# Altium integrated library ON Semi Logic Translator.IntLib: 79 symbols (part 1 of 2)
Pins are listed as number, name and electrical type; pins without a type are passive.

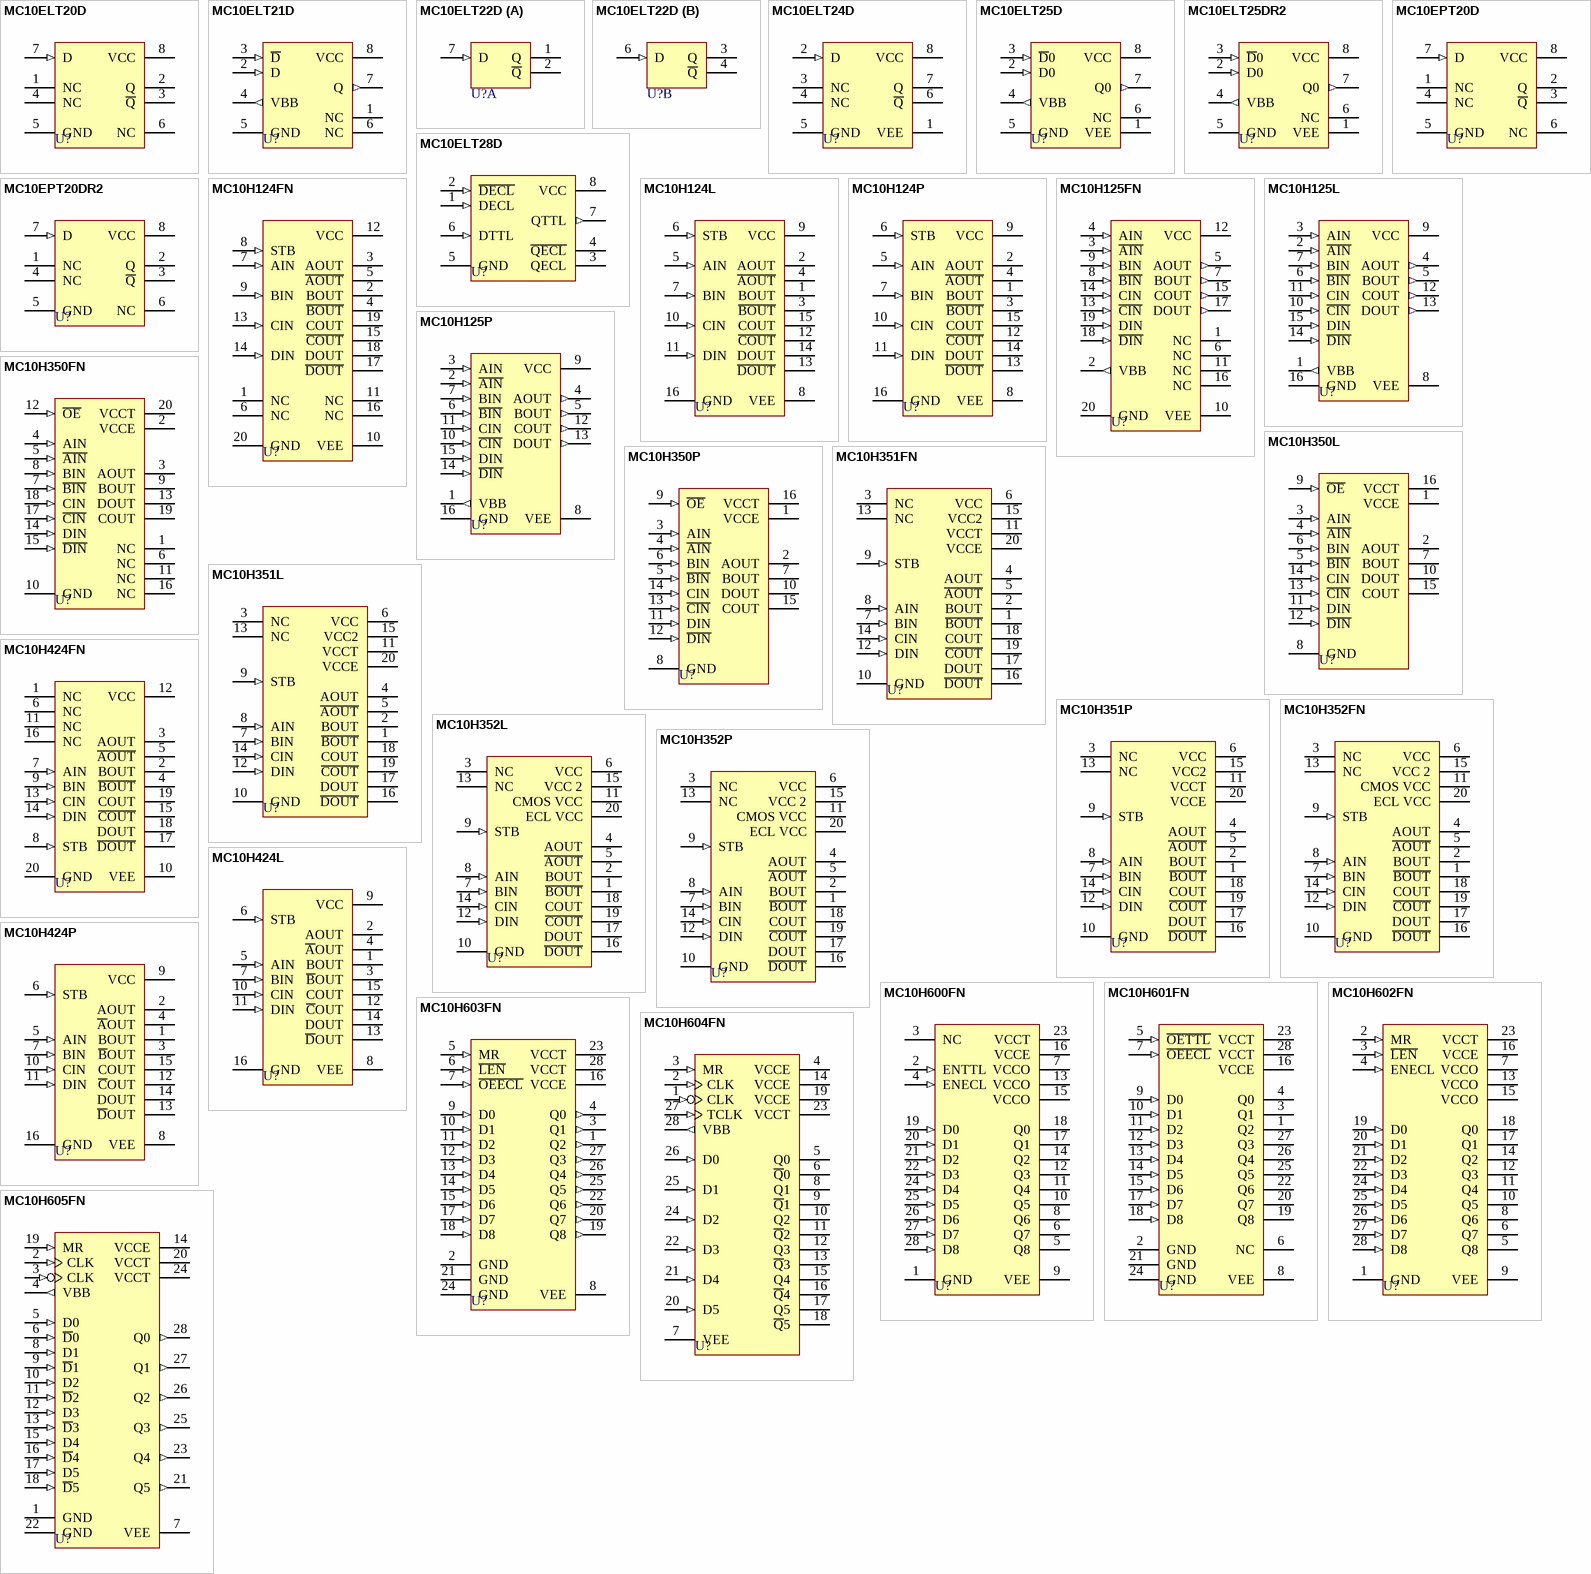
[diagram p0: symbols MC10ELT20D to MC10H605FN]

## MC10ELT20D
designator U?
TTL to Differential PECL Translator; Published: 15-Apr-2002; LatestRevisionDate: 13-Apr-2006; LatestRevisionNote: IPC-7351 Footprint Added.; DatasheetVersion: 1996; PackageVersion: 1998; PackageReference: 751-05; Publisher: Altium Limited; PackageDescription: 8-Pin Small Outline Integrated Circuit 1.27 mm Pitch; Code_JEDEC: MS-012-AA; Code_IPC: SOIC127P600-8; ComponentLink1Description: Manufacturer Link; ComponentLink1URL: http://www.onsemi.com/; ComponentLink2Description: Datasheet; ComponentLink2URL: http://www.onsemi.com/pub/Collateral/MC10ELT20-D.PDF
footprint 751-05_N (SOIC, 8-Leads, Body 4.9x3.9mm, Pitch 1.27mm, IPC Medium Density)
footprint 751-05_L (SOIC, 8-Leads, Body 4.9x3.9mm, Pitch 1.27mm, IPC High Density)
footprint 751-05_M (SOIC, 8-Leads, Body 4.9x3.9mm, Pitch 1.27mm, IPC Low Density)
pins: 1 NC, 2 Q (oe), 3 ~{Q} (oe), 4 NC, 5 GND (power), 6 NC, 7 D (in), 8 VCC (power)

## MC10ELT21D
designator U?
Differential PECL to TTL Translator; Published: 15-Apr-2002; LatestRevisionDate: 13-Apr-2006; LatestRevisionNote: IPC-7351 Footprint Added.; DatasheetVersion: 1996; PackageVersion: 1998; PackageReference: 751-05; Publisher: Altium Limited; PackageDescription: 8-Pin Small Outline Integrated Circuit 1.27 mm Pitch; Code_JEDEC: MS-012-AA; Code_IPC: SOIC127P600-8; ComponentLink1Description: Manufacturer Link; ComponentLink1URL: http://www.onsemi.com/; ComponentLink2Description: Datasheet; ComponentLink2URL: http://www.onsemi.com/pub/Collateral/MC10ELT21-D.PDF
footprint 751-05_N (SOIC, 8-Leads, Body 4.9x3.9mm, Pitch 1.27mm, IPC Medium Density)
footprint 751-05_L (SOIC, 8-Leads, Body 4.9x3.9mm, Pitch 1.27mm, IPC High Density)
footprint 751-05_M (SOIC, 8-Leads, Body 4.9x3.9mm, Pitch 1.27mm, IPC Low Density)
pins: 1 NC, 2 D (in), 3 ~{D} (in), 4 VBB (out), 5 GND (power), 6 NC, 7 Q (out), 8 VCC (power)

## MC10ELT22D
designator U?
Dual TTL to Differential PECL Translator; Published: 15-Apr-2002; LatestRevisionDate: 13-Apr-2006; LatestRevisionNote: IPC-7351 Footprint Added.; DatasheetVersion: 1996; PackageVersion: 1998; PackageReference: 751-05; Publisher: Altium Limited; PackageDescription: 8-Pin Small Outline Integrated Circuit 1.27 mm Pitch; Code_JEDEC: MS-012-AA; Code_IPC: SOIC127P600-8; ComponentLink1Description: Manufacturer Link; ComponentLink1URL: http://www.onsemi.com/; ComponentLink2Description: Datasheet; ComponentLink2URL: http://www.onsemi.com/pub/Collateral/MC10ELT22-D.PDF
footprint 751-05_N (SOIC, 8-Leads, Body 4.9x3.9mm, Pitch 1.27mm, IPC Medium Density)
footprint 751-05_L (SOIC, 8-Leads, Body 4.9x3.9mm, Pitch 1.27mm, IPC High Density)
footprint 751-05_M (SOIC, 8-Leads, Body 4.9x3.9mm, Pitch 1.27mm, IPC Low Density)
pins on every part: 5 GND (power) hidden to GND, 8 VCC (power) hidden to VCC
part A pins: 1 Q (oe), 2 ~{Q} (oe), 7 D (in)
part B pins: 3 Q (oe), 4 ~{Q} (oe), 6 D (in)

## MC10ELT24D
designator U?
TTL to Differential ECL Translator; Published: 15-Apr-2002; LatestRevisionDate: 13-Apr-2006; LatestRevisionNote: IPC-7351 Footprint Added.; DatasheetVersion: 1996; PackageVersion: 1998; PackageReference: 751-05; Publisher: Altium Limited; PackageDescription: 8-Pin Small Outline Integrated Circuit 1.27 mm Pitch; Code_JEDEC: MS-012-AA; Code_IPC: SOIC127P600-8; ComponentLink1Description: Manufacturer Link; ComponentLink1URL: http://www.onsemi.com/; ComponentLink2Description: Datasheet; ComponentLink2URL: http://www.onsemi.com/pub/Collateral/MC10ELT24-D.PDF
footprint 751-05_N (SOIC, 8-Leads, Body 4.9x3.9mm, Pitch 1.27mm, IPC Medium Density)
footprint 751-05_L (SOIC, 8-Leads, Body 4.9x3.9mm, Pitch 1.27mm, IPC High Density)
footprint 751-05_M (SOIC, 8-Leads, Body 4.9x3.9mm, Pitch 1.27mm, IPC Low Density)
pins: 1 VEE (power), 2 D (in), 3 NC, 4 NC, 5 GND (power), 6 ~{Q} (oe), 7 Q (oe), 8 VCC (power)

## MC10ELT25D
designator U?
Differential ECL to TTL Translator; Published: 15-Apr-2002; LatestRevisionDate: 13-Apr-2006; LatestRevisionNote: IPC-7351 Footprint Added.; DatasheetVersion: Feb-2000; PackageVersion: 1998; PackageReference: 751-05; Publisher: Altium Limited; PackageDescription: 8-Pin Small Outline Integrated Circuit 1.27 mm Pitch; Code_JEDEC: MS-012-AA; Code_IPC: SOIC127P600-8; ComponentLink1Description: Manufacturer Link; ComponentLink1URL: http://www.onsemi.com/; ComponentLink2Description: Datasheet; ComponentLink2URL: http://www.onsemi.com/pub/Collateral/MC10ELT25-D.PDF
footprint 751-05_N (SOIC, 8-Leads, Body 4.9x3.9mm, Pitch 1.27mm, IPC Medium Density)
footprint 751-05_L (SOIC, 8-Leads, Body 4.9x3.9mm, Pitch 1.27mm, IPC High Density)
footprint 751-05_M (SOIC, 8-Leads, Body 4.9x3.9mm, Pitch 1.27mm, IPC Low Density)
pins: 1 VEE (power), 2 D0 (in), 3 ~{D}0 (in), 4 VBB (out), 5 GND (power), 6 NC, 7 Q0 (out), 8 VCC (power)

## MC10ELT25DR2
designator U?
Differential ECL to TTL Translator; Published: 15-Apr-2002; LatestRevisionDate: 13-Apr-2006; LatestRevisionNote: IPC-7351 Footprint Added.; DatasheetVersion: Feb-2000; PackageVersion: 1998; PackageReference: 751-05; Publisher: Altium Limited; PackageDescription: 8-Pin Small Outline Integrated Circuit 1.27 mm Pitch; Code_JEDEC: MS-012-AA; Code_IPC: SOIC127P600-8; ComponentLink1Description: Manufacturer Link; ComponentLink1URL: http://www.onsemi.com/; ComponentLink2Description: Datasheet; ComponentLink2URL: http://www.onsemi.com/pub/Collateral/MC10ELT25-D.PDF
footprint 751-05_N (SOIC, 8-Leads, Body 4.9x3.9mm, Pitch 1.27mm, IPC Medium Density)
footprint 751-05_L (SOIC, 8-Leads, Body 4.9x3.9mm, Pitch 1.27mm, IPC High Density)
footprint 751-05_M (SOIC, 8-Leads, Body 4.9x3.9mm, Pitch 1.27mm, IPC Low Density)
pins: 1 VEE (power), 2 D0 (in), 3 ~{D}0 (in), 4 VBB (out), 5 GND (power), 6 NC, 7 Q0 (out), 8 VCC (power)

## MC10ELT28D
designator U?
TTL to Differential PECL/Differential PECL to TTL Translator; Published: 15-Apr-2002; LatestRevisionDate: 13-Apr-2006; LatestRevisionNote: IPC-7351 Footprint Added.; DatasheetVersion: 1996; PackageVersion: 1998; PackageReference: 751-05; Publisher: Altium Limited; PackageDescription: 8-Pin Small Outline Integrated Circuit 1.27 mm Pitch; Code_JEDEC: MS-012-AA; Code_IPC: SOIC127P600-8; ComponentLink1Description: Manufacturer Link; ComponentLink1URL: http://www.onsemi.com/; ComponentLink2Description: Datasheet; ComponentLink2URL: http://www.onsemi.com/pub/Collateral/MC10ELT28-D.PDF
footprint 751-05_N (SOIC, 8-Leads, Body 4.9x3.9mm, Pitch 1.27mm, IPC Medium Density)
footprint 751-05_L (SOIC, 8-Leads, Body 4.9x3.9mm, Pitch 1.27mm, IPC High Density)
footprint 751-05_M (SOIC, 8-Leads, Body 4.9x3.9mm, Pitch 1.27mm, IPC Low Density)
pins: 1 DECL (in), 2 ~{DECL} (in), 3 QECL (oe), 4 ~{QECL} (oe), 5 GND (power), 6 DTTL (in), 7 QTTL (out), 8 VCC (power)

## MC10EPT20D
designator U?
LVTTL/LVCMOS to Differential LVPECL Translator; Published: 15-Apr-2002; LatestRevisionDate: 13-Apr-2006; LatestRevisionNote: IPC-7351 Footprint Added.; DatasheetVersion: Sep-1999; PackageVersion: Sep-1999; PackageReference: 751-06; Publisher: Altium Limited; PackageDescription: 8-Pin Small Outline Integrated Circuit 1.27 mm Pitch; Code_JEDEC: MS-012-AA; Code_IPC: SOIC127P600-8; ComponentLink1Description: Manufacturer Link; ComponentLink1URL: http://www.onsemi.com/; ComponentLink2Description: Datasheet; ComponentLink2URL: http://www.onsemi.com/pub/Collateral/MC10EPT20-D.PDF
footprint 751-06_N (SOIC, 8-Leads, Body 4.9x3.9mm, Pitch 1.27mm, IPC Medium Density)
footprint 751-06_L (SOIC, 8-Leads, Body 4.9x3.9mm, Pitch 1.27mm, IPC High Density)
footprint 751-06_M (SOIC, 8-Leads, Body 4.9x3.9mm, Pitch 1.27mm, IPC Low Density)
pins: 1 NC, 2 Q (oe), 3 ~{Q} (oe), 4 NC, 5 GND (power), 6 NC, 7 D (in), 8 VCC (power)

## MC10EPT20DR2
designator U?
LVTTL/LVCMOS to Differential LVPECL Translator; Published: 15-Apr-2002; LatestRevisionDate: 13-Apr-2006; LatestRevisionNote: IPC-7351 Footprint Added.; DatasheetVersion: Sep-1999; PackageVersion: Sep-1999; PackageReference: 751-06; Publisher: Altium Limited; PackageDescription: 8-Pin Small Outline Integrated Circuit 1.27 mm Pitch; Code_JEDEC: MS-012-AA; Code_IPC: SOIC127P600-8; ComponentLink1Description: Manufacturer Link; ComponentLink1URL: http://www.onsemi.com/; ComponentLink2Description: Datasheet; ComponentLink2URL: http://www.onsemi.com/pub/Collateral/MC10EPT20-D.PDF
footprint 751-06_N (SOIC, 8-Leads, Body 4.9x3.9mm, Pitch 1.27mm, IPC Medium Density)
footprint 751-06_L (SOIC, 8-Leads, Body 4.9x3.9mm, Pitch 1.27mm, IPC High Density)
footprint 751-06_M (SOIC, 8-Leads, Body 4.9x3.9mm, Pitch 1.27mm, IPC Low Density)
pins: 1 NC, 2 Q (oe), 3 ~{Q} (oe), 4 NC, 5 GND (power), 6 NC, 7 D (in), 8 VCC (power)

## MC10H124FN
designator U?
Quad TTL to MECL Translator with TTL Strobe Input; Published: 15-Apr-2002; LatestRevisionDate: 13-Apr-2006; LatestRevisionNote: IPC-7351 Footprint Added.; DatasheetVersion: 1996; PackageVersion: 1996; PackageReference: 775-02; Publisher: Altium Limited; PackageDescription: 20-Pin Leaded Chip Carrier 1.27 mm Pitch; ComponentLink1Description: Manufacturer Link; ComponentLink1URL: http://www.onsemi.com/; ComponentLink2Description: Datasheet; ComponentLink2URL: http://www.onsemi.com/pub/Collateral/MC10H124-D.PDF
footprint 775-02_N (Leaded Chip Carrier, 20-Leads, Body 9x9mm, Pitch 1.27mm, IPC Medium Density)
footprint 775-02_L (Leaded Chip Carrier, 20-Leads, Body 9x9mm, Pitch 1.27mm, IPC High Density)
footprint 775-02_M (Leaded Chip Carrier, 20-Leads, Body 9x9mm, Pitch 1.27mm, IPC Low Density)
pins: 1 NC, 2 BOUT (oe), 3 AOUT (oe), 4 ~{BOUT} (oe), 5 ~{AOUT} (oe), 6 NC, 7 AIN (in), 8 STB (in), 9 BIN (in), 10 VEE (power), 11 NC, 12 VCC (power), 13 CIN (in), 14 DIN (in), 15 ~{COUT} (oe), 16 NC, 17 ~{DOUT} (oe), 18 DOUT (oe), 19 COUT (oe), 20 GND (power)

## MC10H124L
designator U?
Quad TTL to MECL Translator with TTL Strobe Input; Published: 15-Apr-2002; DatasheetVersion: 1996; PackageVersion: 1996; PackageReference: 620-10; Publisher: Altium Limited; PackageDescription: DIP; 16 Leads; Row Spacing 7.62 mm; Pitch 2.54 mm; ComponentLink1Description: Manufacturer Link; ComponentLink1URL: http://www.onsemi.com/; ComponentLink2Description: Datasheet; ComponentLink2URL: http://www.onsemi.com/pub/Collateral/MC10H124-D.PDF
footprint 620-10 (DIP; 16 Leads; Row Spacing 7.62 mm; Pitch 2.54 mm)
pins: 1 BOUT (oe), 2 AOUT (oe), 3 ~{BOUT} (oe), 4 ~{AOUT} (oe), 5 AIN (in), 6 STB (in), 7 BIN (in), 8 VEE (power), 9 VCC (power), 10 CIN (in), 11 DIN (in), 12 ~{COUT} (oe), 13 ~{DOUT} (oe), 14 DOUT (oe), 15 COUT (oe), 16 GND (power)

## MC10H124P
designator U?
Quad TTL to MECL Translator with TTL Strobe Input; Published: 15-Apr-2002; DatasheetVersion: 1996; PackageVersion: Apr-2000; PackageReference: 648-08; Publisher: Altium Limited; PackageDescription: DIP; 16 Leads; Row Spacing 7.62 mm; Pitch 2.54 mm; Code_JEDEC: MS-001-BB; ComponentLink1Description: Manufacturer Link; ComponentLink1URL: http://www.onsemi.com/; ComponentLink2Description: Datasheet; ComponentLink2URL: http://www.onsemi.com/pub/Collateral/MC10H124-D.PDF
footprint 648-08 (DIP; 16 Leads; Row Spacing 7.62 mm; Pitch 2.54 mm)
pins: 1 BOUT (oe), 2 AOUT (oe), 3 ~{BOUT} (oe), 4 ~{AOUT} (oe), 5 AIN (in), 6 STB (in), 7 BIN (in), 8 VEE (power), 9 VCC (power), 10 CIN (in), 11 DIN (in), 12 ~{COUT} (oe), 13 ~{DOUT} (oe), 14 DOUT (oe), 15 COUT (oe), 16 GND (power)

## MC10H125FN
designator U?
Quad MECL to TTL Translator; Published: 15-Apr-2002; LatestRevisionDate: 13-Apr-2006; LatestRevisionNote: IPC-7351 Footprint Added.; DatasheetVersion: 1996; PackageVersion: 1996; PackageReference: 775-02; Publisher: Altium Limited; PackageDescription: 20-Pin Leaded Chip Carrier 1.27 mm Pitch; ComponentLink1Description: Manufacturer Link; ComponentLink1URL: http://www.onsemi.com/; ComponentLink2Description: Datasheet; ComponentLink2URL: http://www.onsemi.com/pub/Collateral/MC10H125-D.PDF
footprint 775-02_N (Leaded Chip Carrier, 20-Leads, Body 9x9mm, Pitch 1.27mm, IPC Medium Density)
footprint 775-02_L (Leaded Chip Carrier, 20-Leads, Body 9x9mm, Pitch 1.27mm, IPC High Density)
footprint 775-02_M (Leaded Chip Carrier, 20-Leads, Body 9x9mm, Pitch 1.27mm, IPC Low Density)
pins: 1 NC, 2 VBB (out), 3 ~{AIN} (in), 4 AIN (in), 5 AOUT (out), 6 NC, 7 BOUT (out), 8 ~{BIN} (in), 9 BIN (in), 10 VEE (power), 11 NC, 12 VCC (power), 13 ~{CIN} (in), 14 CIN (in), 15 COUT (out), 16 NC, 17 DOUT (out), 18 ~{DIN} (in), 19 DIN (in), 20 GND (power)

## MC10H125L
designator U?
Quad MECL to TTL Translator; Published: 15-Apr-2002; DatasheetVersion: 1996; PackageVersion: 1996; PackageReference: 620-10; Publisher: Altium Limited; PackageDescription: DIP; 16 Leads; Row Spacing 7.62 mm; Pitch 2.54 mm; ComponentLink1Description: Manufacturer Link; ComponentLink1URL: http://www.onsemi.com/; ComponentLink2Description: Datasheet; ComponentLink2URL: http://www.onsemi.com/pub/Collateral/MC10H125-D.PDF
footprint 620-10 (DIP; 16 Leads; Row Spacing 7.62 mm; Pitch 2.54 mm)
pins: 1 VBB (out), 2 ~{AIN} (in), 3 AIN (in), 4 AOUT (out), 5 BOUT (out), 6 ~{BIN} (in), 7 BIN (in), 8 VEE (power), 9 VCC (power), 10 ~{CIN} (in), 11 CIN (in), 12 COUT (out), 13 DOUT (out), 14 ~{DIN} (in), 15 DIN (in), 16 GND (power)

## MC10H125P
designator U?
Quad MECL to TTL Translator; Published: 15-Apr-2002; DatasheetVersion: 1996; PackageVersion: Apr-2000; PackageReference: 648-08; Publisher: Altium Limited; PackageDescription: DIP; 16 Leads; Row Spacing 7.62 mm; Pitch 2.54 mm; Code_JEDEC: MS-001-BB; ComponentLink1Description: Manufacturer Link; ComponentLink1URL: http://www.onsemi.com/; ComponentLink2Description: Datasheet; ComponentLink2URL: http://www.onsemi.com/pub/Collateral/MC10H125-D.PDF
footprint 648-08 (DIP; 16 Leads; Row Spacing 7.62 mm; Pitch 2.54 mm)
pins: 1 VBB (out), 2 ~{AIN} (in), 3 AIN (in), 4 AOUT (out), 5 BOUT (out), 6 ~{BIN} (in), 7 BIN (in), 8 VEE (power), 9 VCC (power), 10 ~{CIN} (in), 11 CIN (in), 12 COUT (out), 13 DOUT (out), 14 ~{DIN} (in), 15 DIN (in), 16 GND (power)

## MC10H350FN
designator U?
PECL to TTL Translator; Published: 15-Apr-2002; LatestRevisionDate: 13-Apr-2006; LatestRevisionNote: IPC-7351 Footprint Added.; DatasheetVersion: 1996; PackageVersion: 1996; PackageReference: 775-02; Publisher: Altium Limited; PackageDescription: 20-Pin Leaded Chip Carrier 1.27 mm Pitch; ComponentLink1Description: Manufacturer Link; ComponentLink1URL: http://www.onsemi.com/; ComponentLink2Description: Datasheet; ComponentLink2URL: http://www.onsemi.com/pub/Collateral/MC10H350-D.PDF
footprint 775-02_N (Leaded Chip Carrier, 20-Leads, Body 9x9mm, Pitch 1.27mm, IPC Medium Density)
footprint 775-02_L (Leaded Chip Carrier, 20-Leads, Body 9x9mm, Pitch 1.27mm, IPC High Density)
footprint 775-02_M (Leaded Chip Carrier, 20-Leads, Body 9x9mm, Pitch 1.27mm, IPC Low Density)
pins: 1 NC, 2 VCCE (power), 3 AOUT (hiz), 4 AIN (in), 5 ~{AIN} (in), 6 NC, 7 ~{BIN} (in), 8 BIN (in), 9 BOUT (hiz), 10 GND (power), 11 NC, 12 ~{OE} (in), 13 DOUT (hiz), 14 DIN (in), 15 ~{DIN} (in), 16 NC, 17 ~{CIN} (in), 18 CIN (in), 19 COUT (hiz), 20 VCCT (power)

## MC10H350L
designator U?
PECL to TTL Translator; Published: 15-Apr-2002; DatasheetVersion: 1996; PackageVersion: 1996; PackageReference: 620-10; Publisher: Altium Limited; PackageDescription: DIP; 16 Leads; Row Spacing 7.62 mm; Pitch 2.54 mm; ComponentLink1Description: Manufacturer Link; ComponentLink1URL: http://www.onsemi.com/; ComponentLink2Description: Datasheet; ComponentLink2URL: http://www.onsemi.com/pub/Collateral/MC10H350-D.PDF
footprint 620-10 (DIP; 16 Leads; Row Spacing 7.62 mm; Pitch 2.54 mm)
pins: 1 VCCE (power), 2 AOUT (hiz), 3 AIN (in), 4 ~{AIN} (in), 5 ~{BIN} (in), 6 BIN (in), 7 BOUT (hiz), 8 GND (power), 9 ~{OE} (in), 10 DOUT (hiz), 11 DIN (in), 12 ~{DIN} (in), 13 ~{CIN} (in), 14 CIN (in), 15 COUT (hiz), 16 VCCT (power)

## MC10H350P
designator U?
PECL to TTL Translator; Published: 15-Apr-2002; DatasheetVersion: 1996; PackageVersion: Apr-2000; PackageReference: 648-08; Publisher: Altium Limited; PackageDescription: DIP; 16 Leads; Row Spacing 7.62 mm; Pitch 2.54 mm; Code_JEDEC: MS-001-BB; ComponentLink1Description: Manufacturer Link; ComponentLink1URL: http://www.onsemi.com/; ComponentLink2Description: Datasheet; ComponentLink2URL: http://www.onsemi.com/pub/Collateral/MC10H350-D.PDF
footprint 648-08 (DIP; 16 Leads; Row Spacing 7.62 mm; Pitch 2.54 mm)
pins: 1 VCCE (power), 2 AOUT (hiz), 3 AIN (in), 4 ~{AIN} (in), 5 ~{BIN} (in), 6 BIN (in), 7 BOUT (hiz), 8 GND (power), 9 ~{OE} (in), 10 DOUT (hiz), 11 DIN (in), 12 ~{DIN} (in), 13 ~{CIN} (in), 14 CIN (in), 15 COUT (hiz), 16 VCCT (power)

## MC10H351FN
designator U?
Quad TTL/NMOS to PECL Translator; Published: 15-Apr-2002; LatestRevisionDate: 13-Apr-2006; LatestRevisionNote: IPC-7351 Footprint Added.; DatasheetVersion: 1996; PackageVersion: 1996; PackageReference: 775-02; Publisher: Altium Limited; PackageDescription: 20-Pin Leaded Chip Carrier 1.27 mm Pitch; ComponentLink1Description: Manufacturer Link; ComponentLink1URL: http://www.onsemi.com/; ComponentLink2Description: Datasheet; ComponentLink2URL: http://www.onsemi.com/pub/Collateral/MC10H351-D.PDF
footprint 775-02_N (Leaded Chip Carrier, 20-Leads, Body 9x9mm, Pitch 1.27mm, IPC Medium Density)
footprint 775-02_L (Leaded Chip Carrier, 20-Leads, Body 9x9mm, Pitch 1.27mm, IPC High Density)
footprint 775-02_M (Leaded Chip Carrier, 20-Leads, Body 9x9mm, Pitch 1.27mm, IPC Low Density)
pins: 1 ~{BOUT} (oe), 2 BOUT (oe), 3 NC, 4 AOUT (oe), 5 ~{AOUT} (oe), 6 VCC (power), 7 BIN (in), 8 AIN (in), 9 STB (in), 10 GND (power), 11 VCCT (power), 12 DIN (in), 13 NC, 14 CIN (in), 15 VCC2 (power), 16 ~{DOUT} (oe), 17 DOUT (oe), 18 COUT (oe), 19 ~{COUT} (oe), 20 VCCE (power)

## MC10H351L
designator U?
Quad TTL/NMOS to PECL Translator; ComponentAvailability: Not for New Design; Published: 15-Apr-2002; DatasheetVersion: 1996; PackageVersion: 1996; PackageReference: 732-03; Publisher: Altium Limited; PackageDescription: DIP; 20 Leads; Row Spacing 7.62 mm; Pitch 2.54 mm; Code_JEDEC: MS-015-AE; ComponentLink1Description: Manufacturer Link; ComponentLink1URL: http://www.onsemi.com/; ComponentLink2Description: Datasheet; ComponentLink2URL: http://www.onsemi.com/pub/Collateral/MC10H351-D.PDF
footprint 732-03 (DIP; 20 Leads; Row Spacing 7.62 mm; Pitch 2.54 mm)
pins: 1 ~{BOUT} (oe), 2 BOUT (oe), 3 NC, 4 AOUT (oe), 5 ~{AOUT} (oe), 6 VCC (power), 7 BIN (in), 8 AIN (in), 9 STB (in), 10 GND (power), 11 VCCT (power), 12 DIN (in), 13 NC, 14 CIN (in), 15 VCC2 (power), 16 ~{DOUT} (oe), 17 DOUT (oe), 18 COUT (oe), 19 ~{COUT} (oe), 20 VCCE (power)

## MC10H351P
designator U?
Quad TTL/NMOS to PECL Translator; Published: 15-Apr-2002; DatasheetVersion: 1996; PackageVersion: 1996; PackageReference: 738-03; Publisher: Altium Limited; PackageDescription: DIP; 20 Leads; Row Spacing 7.62 mm; Pitch 2.54 mm; Code_JEDEC: MS-001-AD; ComponentLink1Description: Manufacturer Link; ComponentLink1URL: http://www.onsemi.com/; ComponentLink2Description: Datasheet; ComponentLink2URL: http://www.onsemi.com/pub/Collateral/MC10H351-D.PDF
footprint 738-03 (DIP; 20 Leads; Row Spacing 7.62 mm; Pitch 2.54 mm)
pins: 1 ~{BOUT} (oe), 2 BOUT (oe), 3 NC, 4 AOUT (oe), 5 ~{AOUT} (oe), 6 VCC (power), 7 BIN (in), 8 AIN (in), 9 STB (in), 10 GND (power), 11 VCCT (power), 12 DIN (in), 13 NC, 14 CIN (in), 15 VCC2 (power), 16 ~{DOUT} (oe), 17 DOUT (oe), 18 COUT (oe), 19 ~{COUT} (oe), 20 VCCE (power)

## MC10H352FN
designator U?
Quad CMOS to PECL Translator; Published: 15-Apr-2002; LatestRevisionDate: 13-Apr-2006; LatestRevisionNote: IPC-7351 Footprint Added.; DatasheetVersion: 1996; PackageVersion: 1996; PackageReference: 775-02; Publisher: Altium Limited; PackageDescription: 20-Pin Leaded Chip Carrier 1.27 mm Pitch; ComponentLink1Description: Manufacturer Link; ComponentLink1URL: http://www.onsemi.com/; ComponentLink2Description: Datasheet; ComponentLink2URL: http://www.onsemi.com/pub/Collateral/MC10H352-D.PDF
footprint 775-02_N (Leaded Chip Carrier, 20-Leads, Body 9x9mm, Pitch 1.27mm, IPC Medium Density)
footprint 775-02_L (Leaded Chip Carrier, 20-Leads, Body 9x9mm, Pitch 1.27mm, IPC High Density)
footprint 775-02_M (Leaded Chip Carrier, 20-Leads, Body 9x9mm, Pitch 1.27mm, IPC Low Density)
pins: 1 ~{BOUT} (oe), 2 BOUT (oe), 3 NC, 4 AOUT (oe), 5 ~{AOUT} (oe), 6 VCC (power), 7 BIN (in), 8 AIN (in), 9 STB (in), 10 GND (power), 11 CMOS VCC (power), 12 DIN (in), 13 NC, 14 CIN (in), 15 VCC 2 (power), 16 ~{DOUT} (oe), 17 DOUT (oe), 18 COUT (oe), 19 ~{COUT} (oe), 20 ECL VCC (power)

## MC10H352L
designator U?
Quad CMOS to PECL Translator; Published: 15-Apr-2002; DatasheetVersion: 1996; PackageVersion: 1996; PackageReference: 732-03; Publisher: Altium Limited; PackageDescription: DIP; 20 Leads; Row Spacing 7.62 mm; Pitch 2.54 mm; Code_JEDEC: MS-015-AE; ComponentLink1Description: Manufacturer Link; ComponentLink1URL: http://www.onsemi.com/; ComponentLink2Description: Datasheet; ComponentLink2URL: http://www.onsemi.com/pub/Collateral/MC10H352-D.PDF
footprint 732-03 (DIP; 20 Leads; Row Spacing 7.62 mm; Pitch 2.54 mm)
pins: 1 ~{BOUT} (oe), 2 BOUT (oe), 3 NC, 4 AOUT (oe), 5 ~{AOUT} (oe), 6 VCC (power), 7 BIN (in), 8 AIN (in), 9 STB (in), 10 GND (power), 11 CMOS VCC (power), 12 DIN (in), 13 NC, 14 CIN (in), 15 VCC 2 (power), 16 ~{DOUT} (oe), 17 DOUT (oe), 18 COUT (oe), 19 ~{COUT} (oe), 20 ECL VCC (power)

## MC10H352P
designator U?
Quad CMOS to PECL Translator; Published: 15-Apr-2002; DatasheetVersion: 1996; PackageVersion: 1996; PackageReference: 738-03; Publisher: Altium Limited; PackageDescription: DIP; 20 Leads; Row Spacing 7.62 mm; Pitch 2.54 mm; Code_JEDEC: MS-001-AD; ComponentLink1Description: Manufacturer Link; ComponentLink1URL: http://www.onsemi.com/; ComponentLink2Description: Datasheet; ComponentLink2URL: http://www.onsemi.com/pub/Collateral/MC10H352-D.PDF
footprint 738-03 (DIP; 20 Leads; Row Spacing 7.62 mm; Pitch 2.54 mm)
pins: 1 ~{BOUT} (oe), 2 BOUT (oe), 3 NC, 4 AOUT (oe), 5 ~{AOUT} (oe), 6 VCC (power), 7 BIN (in), 8 AIN (in), 9 STB (in), 10 GND (power), 11 CMOS VCC (power), 12 DIN (in), 13 NC, 14 CIN (in), 15 VCC 2 (power), 16 ~{DOUT} (oe), 17 DOUT (oe), 18 COUT (oe), 19 ~{COUT} (oe), 20 ECL VCC (power)

## MC10H424FN
designator U?
Quad TTL-ECL Translator with ECL Strobe; Published: 15-Apr-2002; LatestRevisionDate: 13-Apr-2006; LatestRevisionNote: IPC-7351 Footprint Added.; DatasheetVersion: 1996; PackageVersion: 1996; PackageReference: 775-02; Publisher: Altium Limited; PackageDescription: 20-Pin Leaded Chip Carrier 1.27 mm Pitch; ComponentLink1Description: Manufacturer Link; ComponentLink1URL: http://www.onsemi.com/; ComponentLink2Description: Datasheet; ComponentLink2URL: http://www.onsemi.com/pub/Collateral/MC10H424-D.PDF
footprint 775-02_N (Leaded Chip Carrier, 20-Leads, Body 9x9mm, Pitch 1.27mm, IPC Medium Density)
footprint 775-02_L (Leaded Chip Carrier, 20-Leads, Body 9x9mm, Pitch 1.27mm, IPC High Density)
footprint 775-02_M (Leaded Chip Carrier, 20-Leads, Body 9x9mm, Pitch 1.27mm, IPC Low Density)
pins: 1 NC, 2 BOUT (oe), 3 AOUT (oe), 4 ~{BOUT} (oe), 5 ~{AOUT} (oe), 6 NC, 7 AIN (in), 8 STB (in), 9 BIN (in), 10 VEE (power), 11 NC, 12 VCC (power), 13 CIN (in), 14 DIN (in), 15 ~{COUT} (oe), 16 NC, 17 ~{DOUT} (oe), 18 DOUT (oe), 19 COUT (oe), 20 GND (power)

## MC10H424L
designator U?
Quad TTL-ECL Translator with ECL Strobe; Published: 15-Apr-2002; DatasheetVersion: 1996; PackageVersion: 1996; PackageReference: 620-10; Publisher: Altium Limited; PackageDescription: DIP; 16 Leads; Row Spacing 7.62 mm; Pitch 2.54 mm; ComponentLink1Description: Manufacturer Link; ComponentLink1URL: http://www.onsemi.com/; ComponentLink2Description: Datasheet; ComponentLink2URL: http://www.onsemi.com/pub/Collateral/MC10H424-D.PDF
footprint 620-10 (DIP; 16 Leads; Row Spacing 7.62 mm; Pitch 2.54 mm)
pins: 1 BOUT (oe), 2 AOUT (oe), 3 ~{B}OUT (oe), 4 ~{A}OUT (oe), 5 AIN (in), 6 STB (in), 7 BIN (in), 8 VEE (power), 9 VCC (power), 10 CIN (in), 11 DIN (in), 12 ~{C}OUT (oe), 13 ~{D}OUT (oe), 14 DOUT (oe), 15 COUT (oe), 16 GND (power)

## MC10H424P
designator U?
Quad TTL-ECL Translator with ECL Strobe; Published: 15-Apr-2002; DatasheetVersion: 1996; PackageVersion: Apr-2000; PackageReference: 648-08; Publisher: Altium Limited; PackageDescription: DIP; 16 Leads; Row Spacing 7.62 mm; Pitch 2.54 mm; Code_JEDEC: MS-001-BB; ComponentLink1Description: Manufacturer Link; ComponentLink1URL: http://www.onsemi.com/; ComponentLink2Description: Datasheet; ComponentLink2URL: http://www.onsemi.com/pub/Collateral/MC10H424-D.PDF
footprint 648-08 (DIP; 16 Leads; Row Spacing 7.62 mm; Pitch 2.54 mm)
pins: 1 BOUT (oe), 2 AOUT (oe), 3 ~{B}OUT (oe), 4 ~{A}OUT (oe), 5 AIN (in), 6 STB (in), 7 BIN (in), 8 VEE (power), 9 VCC (power), 10 CIN (in), 11 DIN (in), 12 ~{C}OUT (oe), 13 ~{D}OUT (oe), 14 DOUT (oe), 15 COUT (oe), 16 GND (power)

## MC10H600FN
designator U?
9-Bit TTL-ECL Translator; Published: 15-Apr-2002; LatestRevisionDate: 13-Apr-2006; LatestRevisionNote: IPC-7351 Footprint Added.; DatasheetVersion: 1996; PackageVersion: Feb-2000; PackageReference: 776-02; Publisher: Altium Limited; PackageDescription: 28-Pin Leaded Chip Carrier 1.27 mm Pitch; ComponentLink1Description: Manufacturer Link; ComponentLink1URL: http://www.onsemi.com/; ComponentLink2Description: Datasheet; ComponentLink2URL: http://www.onsemi.com/pub/Collateral/MC10H600-D.PDF
footprint 776-02_N (Leaded Chip Carrier, 28-Leads, Body 11.5x11.5mm, Pitch 1.27mm, IPC Medium Density)
footprint 776-02_L (Leaded Chip Carrier, 28-Leads, Body 11.5x11.5mm, Pitch 1.27mm, IPC High Density)
footprint 776-02_M (Leaded Chip Carrier, 28-Leads, Body 11.5x11.5mm, Pitch 1.27mm, IPC Low Density)
pins: 1 GND (power), 2 ENTTL (in), 3 NC, 4 ENECL (in), 5 Q8 (oe), 6 Q7 (oe), 7 VCCO (power), 8 Q6 (oe), 9 VEE (power), 10 Q5 (oe), 11 Q4 (oe), 12 Q3 (oe), 13 VCCO (power), 14 Q2 (oe), 15 VCCO (power), 16 VCCE (power), 17 Q1 (oe), 18 Q0 (oe), 19 D0 (in), 20 D1 (in), 21 D2 (in), 22 D3 (in), 23 VCCT (power), 24 D4 (in), 25 D5 (in), 26 D6 (in), 27 D7 (in), 28 D8 (in)

## MC10H601FN
designator U?
9-Bit ECL-TTL Translator; Published: 15-Apr-2002; LatestRevisionDate: 13-Apr-2006; LatestRevisionNote: IPC-7351 Footprint Added.; DatasheetVersion: 1997; PackageVersion: Feb-2000; PackageReference: 776-02; Publisher: Altium Limited; PackageDescription: 28-Pin Leaded Chip Carrier 1.27 mm Pitch; ComponentLink1Description: Manufacturer Link; ComponentLink1URL: http://www.onsemi.com/; ComponentLink2Description: Datasheet; ComponentLink2URL: http://www.onsemi.com/pub/Collateral/MC10H601-D.PDF
footprint 776-02_N (Leaded Chip Carrier, 28-Leads, Body 11.5x11.5mm, Pitch 1.27mm, IPC Medium Density)
footprint 776-02_L (Leaded Chip Carrier, 28-Leads, Body 11.5x11.5mm, Pitch 1.27mm, IPC High Density)
footprint 776-02_M (Leaded Chip Carrier, 28-Leads, Body 11.5x11.5mm, Pitch 1.27mm, IPC Low Density)
pins: 1 Q2 (hiz), 2 GND (power), 3 Q1 (hiz), 4 Q0 (hiz), 5 ~{OETTL} (in), 6 NC, 7 ~{OEECL} (in), 8 VEE (power), 9 D0 (in), 10 D1 (in), 11 D2 (in), 12 D3 (in), 13 D4 (in), 14 D5 (in), 15 D6 (in), 16 VCCE (power), 17 D7 (in), 18 D8 (in), 19 Q8 (hiz), 20 Q7 (hiz), 21 GND (power), 22 Q6 (hiz), 23 VCCT (power), 24 GND (power), 25 Q5 (hiz), 26 Q4 (hiz), 27 Q3 (hiz), 28 VCCT (power)

## MC10H602FN
designator U?
9-Bit Latch/TTL-ECL Translator; Published: 15-Apr-2002; LatestRevisionDate: 13-Apr-2006; LatestRevisionNote: IPC-7351 Footprint Added.; DatasheetVersion: 1996; PackageVersion: Feb-2000; PackageReference: 776-02; Publisher: Altium Limited; PackageDescription: 28-Pin Leaded Chip Carrier 1.27 mm Pitch; ComponentLink1Description: Manufacturer Link; ComponentLink1URL: http://www.onsemi.com/; ComponentLink2Description: Datasheet; ComponentLink2URL: http://www.onsemi.com/pub/Collateral/MC10H602-D.PDF
footprint 776-02_N (Leaded Chip Carrier, 28-Leads, Body 11.5x11.5mm, Pitch 1.27mm, IPC Medium Density)
footprint 776-02_L (Leaded Chip Carrier, 28-Leads, Body 11.5x11.5mm, Pitch 1.27mm, IPC High Density)
footprint 776-02_M (Leaded Chip Carrier, 28-Leads, Body 11.5x11.5mm, Pitch 1.27mm, IPC Low Density)
pins: 1 GND (power), 2 MR (in), 3 ~{LEN} (in), 4 ENECL (in), 5 Q8 (oe), 6 Q7 (oe), 7 VCCO (power), 8 Q6 (oe), 9 VEE (power), 10 Q5 (oe), 11 Q4 (oe), 12 Q3 (oe), 13 VCCO (power), 14 Q2 (oe), 15 VCCO (power), 16 VCCE (power), 17 Q1 (oe), 18 Q0 (oe), 19 D0 (in), 20 D1 (in), 21 D2 (in), 22 D3 (in), 23 VCCT (power), 24 D4 (in), 25 D5 (in), 26 D6 (in), 27 D7 (in), 28 D8 (in)

## MC10H603FN
designator U?
9-Bit Latch/ECL-TTL Translator; Published: 15-Apr-2002; LatestRevisionDate: 13-Apr-2006; LatestRevisionNote: IPC-7351 Footprint Added.; DatasheetVersion: 1996; PackageVersion: Feb-2000; PackageReference: 776-02; Publisher: Altium Limited; PackageDescription: 28-Pin Leaded Chip Carrier 1.27 mm Pitch; ComponentLink1Description: Manufacturer Link; ComponentLink1URL: http://www.onsemi.com/; ComponentLink2Description: Datasheet; ComponentLink2URL: http://www.onsemi.com/pub/Collateral/MC10H603-D.PDF
footprint 776-02_N (Leaded Chip Carrier, 28-Leads, Body 11.5x11.5mm, Pitch 1.27mm, IPC Medium Density)
footprint 776-02_L (Leaded Chip Carrier, 28-Leads, Body 11.5x11.5mm, Pitch 1.27mm, IPC High Density)
footprint 776-02_M (Leaded Chip Carrier, 28-Leads, Body 11.5x11.5mm, Pitch 1.27mm, IPC Low Density)
pins: 1 Q2 (out), 2 GND (power), 3 Q1 (out), 4 Q0 (out), 5 MR (in), 6 ~{LEN} (in), 7 ~{OEECL} (in), 8 VEE (power), 9 D0 (in), 10 D1 (in), 11 D2 (in), 12 D3 (in), 13 D4 (in), 14 D5 (in), 15 D6 (in), 16 VCCE (power), 17 D7 (in), 18 D8 (in), 19 Q8 (out), 20 Q7 (out), 21 GND (power), 22 Q6 (out), 23 VCCT (power), 24 GND (power), 25 Q5 (out), 26 Q4 (out), 27 Q3 (out), 28 VCCT (power)

## MC10H604FN
designator U?
Registered Hex TTL/ECL Translator; Published: 15-Apr-2002; LatestRevisionDate: 13-Apr-2006; LatestRevisionNote: IPC-7351 Footprint Added.; DatasheetVersion: 1996; PackageVersion: Feb-2000; PackageReference: 776-02; Publisher: Altium Limited; PackageDescription: 28-Pin Leaded Chip Carrier 1.27 mm Pitch; ComponentLink1Description: Manufacturer Link; ComponentLink1URL: http://www.onsemi.com/; ComponentLink2Description: Datasheet; ComponentLink2URL: http://www.onsemi.com/pub/Collateral/MC10H604-D.PDF
footprint 776-02_N (Leaded Chip Carrier, 28-Leads, Body 11.5x11.5mm, Pitch 1.27mm, IPC Medium Density)
footprint 776-02_L (Leaded Chip Carrier, 28-Leads, Body 11.5x11.5mm, Pitch 1.27mm, IPC High Density)
footprint 776-02_M (Leaded Chip Carrier, 28-Leads, Body 11.5x11.5mm, Pitch 1.27mm, IPC Low Density)
pins: 1 CLK (in), 2 CLK (in), 3 MR (in), 4 VCCE (power), 5 Q0 (oe), 6 ~{Q}0 (oe), 7 VEE (power), 8 Q1 (oe), 9 ~{Q}1 (oe), 10 Q2 (oe), 11 ~{Q}2 (oe), 12 Q3 (oe), 13 ~{Q}3 (oe), 14 VCCE (power), 15 Q4 (oe), 16 ~{Q}4 (oe), 17 Q5 (oe), 18 ~{Q}5 (oe), 19 VCCE (power), 20 D5 (in), 21 D4 (in), 22 D3 (in), 23 VCCT (power), 24 D2 (in), 25 D1 (in), 26 D0 (in), 27 TCLK (in), 28 VBB (out)

## MC10H605FN
designator U?
Registered Hex ECL/TTL Translator; Published: 15-Apr-2002; LatestRevisionDate: 13-Apr-2006; LatestRevisionNote: IPC-7351 Footprint Added.; DatasheetVersion: 1996; PackageVersion: Feb-2000; PackageReference: 776-02; Publisher: Altium Limited; PackageDescription: 28-Pin Leaded Chip Carrier 1.27 mm Pitch; ComponentLink1Description: Manufacturer Link; ComponentLink1URL: http://www.onsemi.com/; ComponentLink2Description: Datasheet; ComponentLink2URL: http://www.onsemi.com/pub/Collateral/MC10H605-D.PDF
footprint 776-02_N (Leaded Chip Carrier, 28-Leads, Body 11.5x11.5mm, Pitch 1.27mm, IPC Medium Density)
footprint 776-02_L (Leaded Chip Carrier, 28-Leads, Body 11.5x11.5mm, Pitch 1.27mm, IPC High Density)
footprint 776-02_M (Leaded Chip Carrier, 28-Leads, Body 11.5x11.5mm, Pitch 1.27mm, IPC Low Density)
pins: 1 GND (power), 2 CLK (in), 3 CLK (in), 4 VBB (out), 5 D0 (in), 6 ~{D}0 (in), 7 VEE (power), 8 D1 (in), 9 ~{D}1 (in), 10 D2 (in), 11 ~{D}2 (in), 12 D3 (in), 13 ~{D}3 (in), 14 VCCE (power), 15 D4 (in), 16 ~{D}4 (in), 17 D5 (in), 18 ~{D}5 (in), 19 MR (in), 20 VCCT (power), 21 Q5 (out), 22 GND (power), 23 Q4 (out), 24 VCCT (power), 25 Q3 (out), 26 Q2 (out), 27 Q1 (out), 28 Q0 (out)

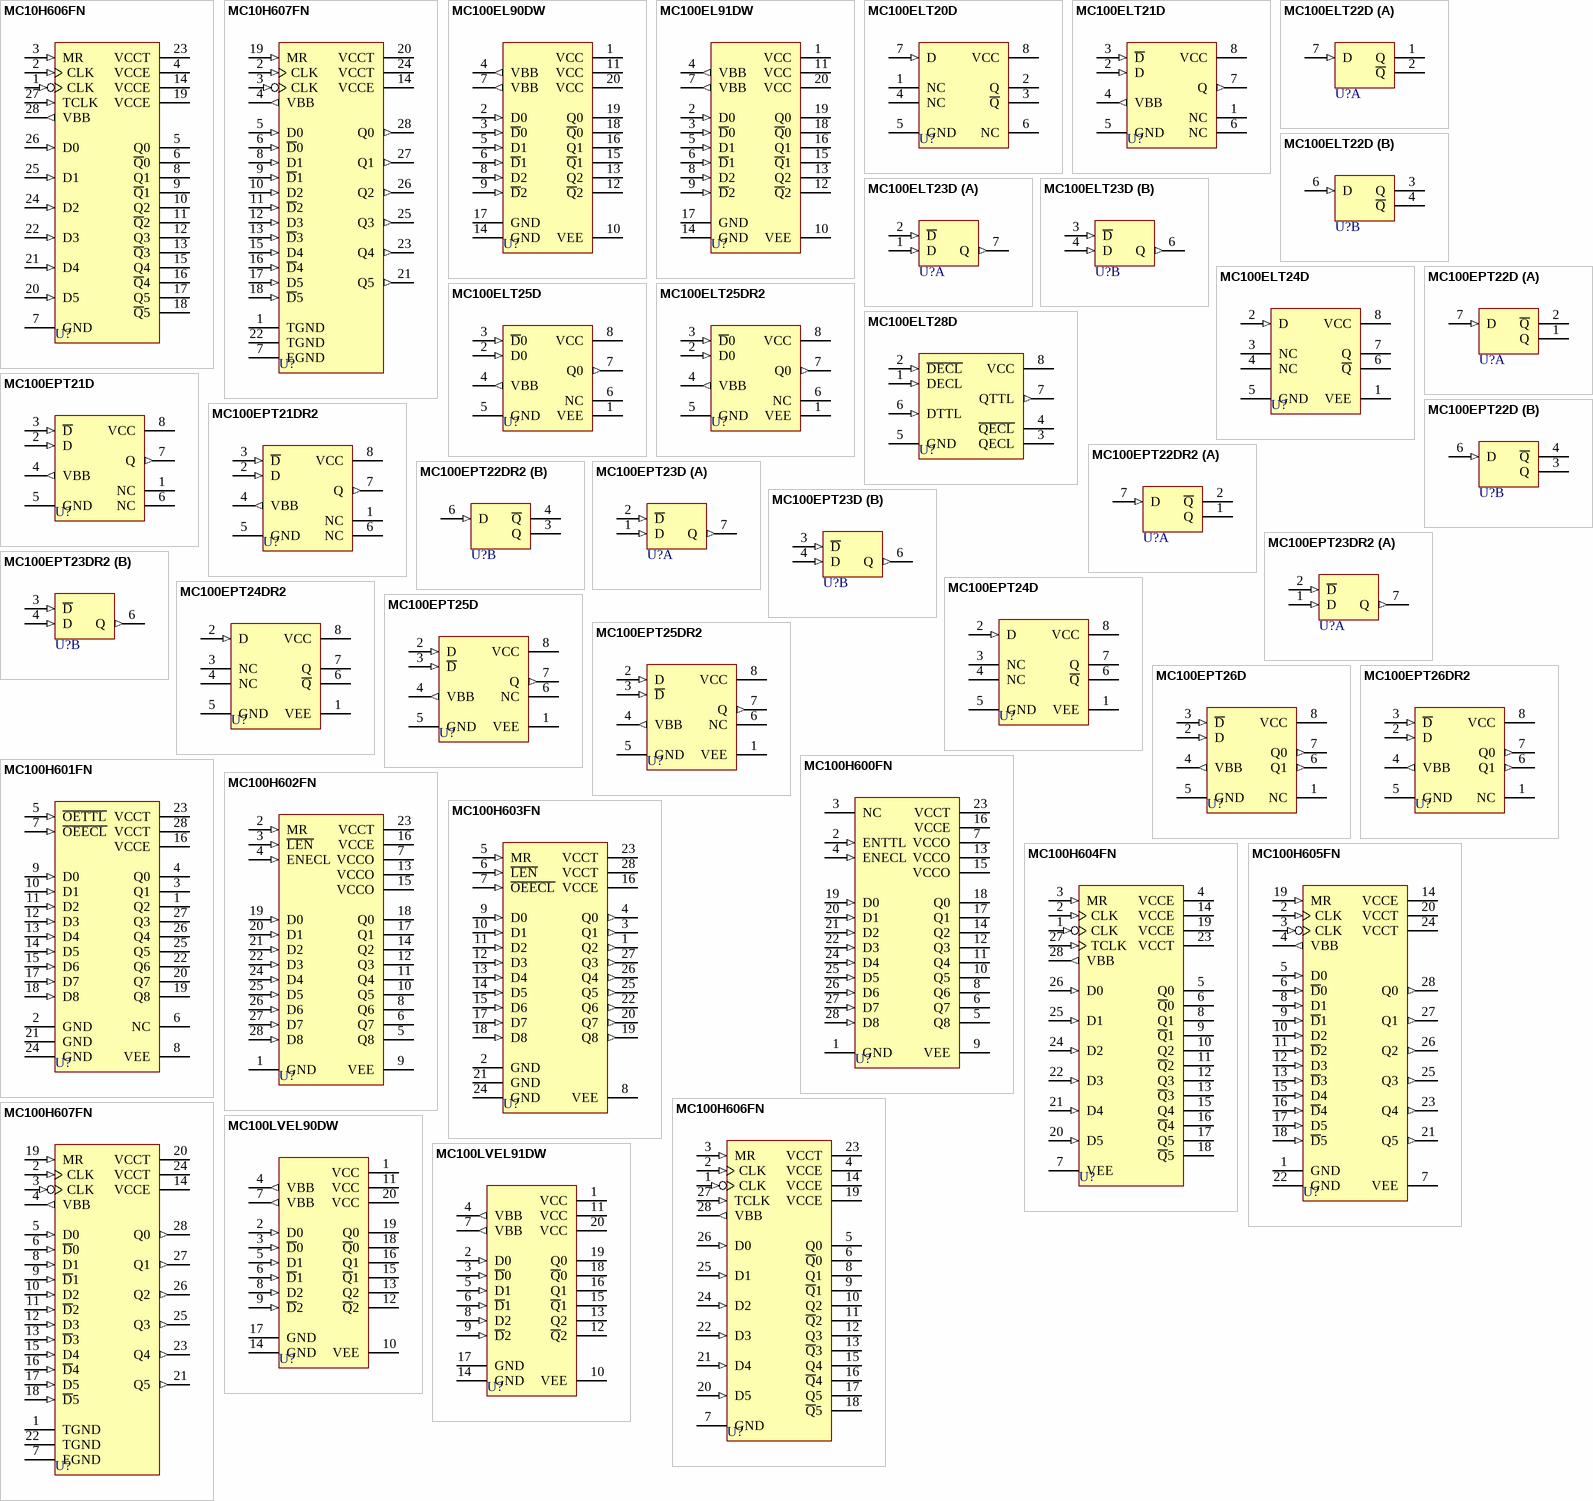
[diagram p1: symbols MC10H606FN to MC100LVEL91DW]

## MC10H606FN
designator U?
Registered Hex TTL/PECL Translator; Published: 15-Apr-2002; LatestRevisionDate: 13-Apr-2006; LatestRevisionNote: IPC-7351 Footprint Added.; DatasheetVersion: 1996; PackageVersion: Feb-2000; PackageReference: 776-02; Publisher: Altium Limited; PackageDescription: 28-Pin Leaded Chip Carrier 1.27 mm Pitch; ComponentLink1Description: Manufacturer Link; ComponentLink1URL: http://www.onsemi.com/; ComponentLink2Description: Datasheet; ComponentLink2URL: http://www.onsemi.com/pub/Collateral/MC10H606-D.PDF
footprint 776-02_N (Leaded Chip Carrier, 28-Leads, Body 11.5x11.5mm, Pitch 1.27mm, IPC Medium Density)
footprint 776-02_L (Leaded Chip Carrier, 28-Leads, Body 11.5x11.5mm, Pitch 1.27mm, IPC High Density)
footprint 776-02_M (Leaded Chip Carrier, 28-Leads, Body 11.5x11.5mm, Pitch 1.27mm, IPC Low Density)
pins: 1 CLK (in), 2 CLK (in), 3 MR (in), 4 VCCE (power), 5 Q0 (oe), 6 ~{Q}0 (oe), 7 GND (power), 8 Q1 (oe), 9 ~{Q}1 (oe), 10 Q2 (oe), 11 ~{Q}2 (oe), 12 Q3 (oe), 13 ~{Q}3 (oe), 14 VCCE (power), 15 Q4 (oe), 16 ~{Q}4 (oe), 17 Q5 (oe), 18 ~{Q}5 (oe), 19 VCCE (power), 20 D5 (in), 21 D4 (in), 22 D3 (in), 23 VCCT (power), 24 D2 (in), 25 D1 (in), 26 D0 (in), 27 TCLK (in), 28 VBB (out)

## MC10H607FN
designator U?
Registered Hex PECL/TTL Translator; Published: 15-Apr-2002; LatestRevisionDate: 13-Apr-2006; LatestRevisionNote: IPC-7351 Footprint Added.; DatasheetVersion: 1996; PackageVersion: Feb-2000; PackageReference: 776-02; Publisher: Altium Limited; PackageDescription: 28-Pin Leaded Chip Carrier 1.27 mm Pitch; ComponentLink1Description: Manufacturer Link; ComponentLink1URL: http://www.onsemi.com/; ComponentLink2Description: Datasheet; ComponentLink2URL: http://www.onsemi.com/pub/Collateral/MC10H607-D.PDF
footprint 776-02_N (Leaded Chip Carrier, 28-Leads, Body 11.5x11.5mm, Pitch 1.27mm, IPC Medium Density)
footprint 776-02_L (Leaded Chip Carrier, 28-Leads, Body 11.5x11.5mm, Pitch 1.27mm, IPC High Density)
footprint 776-02_M (Leaded Chip Carrier, 28-Leads, Body 11.5x11.5mm, Pitch 1.27mm, IPC Low Density)
pins: 1 TGND (power), 2 CLK (in), 3 CLK (in), 4 VBB (out), 5 D0 (in), 6 ~{D}0 (in), 7 EGND (power), 8 D1 (in), 9 ~{D}1 (in), 10 D2 (in), 11 ~{D}2 (in), 12 D3 (in), 13 ~{D}3 (in), 14 VCCE (power), 15 D4 (in), 16 ~{D}4 (in), 17 D5 (in), 18 ~{D}5 (in), 19 MR (in), 20 VCCT (power), 21 Q5 (out), 22 TGND (power), 23 Q4 (out), 24 VCCT (power), 25 Q3 (out), 26 Q2 (out), 27 Q1 (out), 28 Q0 (out)

## MC100EL90DW
designator U?
Triple ECL to PECL Translator; Published: 15-Apr-2002; LatestRevisionDate: 13-Apr-2006; LatestRevisionNote: IPC-7351 Footprint Added.; DatasheetVersion: 1996; PackageReference: 751D-04; Publisher: Altium Limited; PackageDescription: 20-Pin Small Outline Integrated Circuit 1.27 mm Pitch; ComponentLink1Description: Manufacturer Link; ComponentLink1URL: http://www.onsemi.com/; ComponentLink2Description: Datasheet; ComponentLink2URL: http://www.onsemi.com/pub/Collateral/MC100LVEL90-D.PDF
footprint 751D-04_N (SOIC, 20-Leads, Body 12.8x7.5mm, Pitch 1.27mm, IPC Medium Density)
footprint 751D-04_L (SOIC, 20-Leads, Body 12.8x7.5mm, Pitch 1.27mm, IPC High Density)
footprint 751D-04_M (SOIC, 20-Leads, Body 12.8x7.5mm, Pitch 1.27mm, IPC Low Density)
pins: 1 VCC (power), 2 D0 (in), 3 ~{D}0 (in), 4 VBB (out), 5 D1 (in), 6 ~{D}1 (in), 7 VBB (out), 8 D2 (in), 9 ~{D}2 (in), 10 VEE (power), 11 VCC (power), 12 ~{Q}2 (oe), 13 Q2 (oe), 14 GND (power), 15 ~{Q}1 (oe), 16 Q1 (oe), 17 GND (power), 18 ~{Q}0 (oe), 19 Q0 (oe), 20 VCC (power)

## MC100EL91DW
designator U?
Triple PECL to ECL Translator; Published: 15-Apr-2002; LatestRevisionDate: 13-Apr-2006; LatestRevisionNote: IPC-7351 Footprint Added.; DatasheetVersion: 1997; PackageReference: 751D-04; Publisher: Altium Limited; PackageDescription: 20-Pin Small Outline Integrated Circuit 1.27 mm Pitch; ComponentLink1Description: Manufacturer Link; ComponentLink1URL: http://www.onsemi.com/; ComponentLink2Description: Datasheet; ComponentLink2URL: http://www.onsemi.com/pub/Collateral/MC100LVEL91-D.PDF
footprint 751D-04_N (SOIC, 20-Leads, Body 12.8x7.5mm, Pitch 1.27mm, IPC Medium Density)
footprint 751D-04_L (SOIC, 20-Leads, Body 12.8x7.5mm, Pitch 1.27mm, IPC High Density)
footprint 751D-04_M (SOIC, 20-Leads, Body 12.8x7.5mm, Pitch 1.27mm, IPC Low Density)
pins: 1 VCC (power), 2 D0 (in), 3 ~{D}0 (in), 4 VBB (out), 5 D1 (in), 6 ~{D}1 (in), 7 VBB (out), 8 D2 (in), 9 ~{D}2 (in), 10 VEE (power), 11 VCC (power), 12 ~{Q}2 (oe), 13 Q2 (oe), 14 GND (power), 15 ~{Q}1 (oe), 16 Q1 (oe), 17 GND (power), 18 ~{Q}0 (oe), 19 Q0 (oe), 20 VCC (power)

## MC100ELT20D
designator U?
TTL to Differential PECL Translator; Published: 15-Apr-2002; LatestRevisionDate: 13-Apr-2006; LatestRevisionNote: IPC-7351 Footprint Added.; DatasheetVersion: 1996; PackageVersion: 1998; PackageReference: 751-05; Publisher: Altium Limited; PackageDescription: 8-Pin Small Outline Integrated Circuit 1.27 mm Pitch; Code_JEDEC: MS-012-AA; Code_IPC: SOIC127P600-8; ComponentLink1Description: Manufacturer Link; ComponentLink1URL: http://www.onsemi.com/; ComponentLink2Description: Datasheet; ComponentLink2URL: http://www.onsemi.com/pub/Collateral/MC10ELT20-D.PDF
footprint 751-05_N (SOIC, 8-Leads, Body 4.9x3.9mm, Pitch 1.27mm, IPC Medium Density)
footprint 751-05_L (SOIC, 8-Leads, Body 4.9x3.9mm, Pitch 1.27mm, IPC High Density)
footprint 751-05_M (SOIC, 8-Leads, Body 4.9x3.9mm, Pitch 1.27mm, IPC Low Density)
pins: 1 NC, 2 Q (oe), 3 ~{Q} (oe), 4 NC, 5 GND (power), 6 NC, 7 D (in), 8 VCC (power)

## MC100ELT21D
designator U?
Differential PECL to TTL Translator; Published: 15-Apr-2002; LatestRevisionDate: 13-Apr-2006; LatestRevisionNote: IPC-7351 Footprint Added.; DatasheetVersion: 1996; PackageVersion: 1998; PackageReference: 751-05; Publisher: Altium Limited; PackageDescription: 8-Pin Small Outline Integrated Circuit 1.27 mm Pitch; Code_JEDEC: MS-012-AA; Code_IPC: SOIC127P600-8; ComponentLink1Description: Manufacturer Link; ComponentLink1URL: http://www.onsemi.com/; ComponentLink2Description: Datasheet; ComponentLink2URL: http://www.onsemi.com/pub/Collateral/MC10ELT21-D.PDF
footprint 751-05_N (SOIC, 8-Leads, Body 4.9x3.9mm, Pitch 1.27mm, IPC Medium Density)
footprint 751-05_L (SOIC, 8-Leads, Body 4.9x3.9mm, Pitch 1.27mm, IPC High Density)
footprint 751-05_M (SOIC, 8-Leads, Body 4.9x3.9mm, Pitch 1.27mm, IPC Low Density)
pins: 1 NC, 2 D (in), 3 ~{D} (in), 4 VBB (out), 5 GND (power), 6 NC, 7 Q (out), 8 VCC (power)

## MC100ELT22D
designator U?
Dual TTL to Differential PECL Translator; Published: 15-Apr-2002; LatestRevisionDate: 13-Apr-2006; LatestRevisionNote: IPC-7351 Footprint Added.; DatasheetVersion: 1996; PackageVersion: 1998; PackageReference: 751-05; Publisher: Altium Limited; PackageDescription: 8-Pin Small Outline Integrated Circuit 1.27 mm Pitch; Code_JEDEC: MS-012-AA; Code_IPC: SOIC127P600-8; ComponentLink1Description: Manufacturer Link; ComponentLink1URL: http://www.onsemi.com/; ComponentLink2Description: Datasheet; ComponentLink2URL: http://www.onsemi.com/pub/Collateral/MC10ELT22-D.PDF
footprint 751-05_N (SOIC, 8-Leads, Body 4.9x3.9mm, Pitch 1.27mm, IPC Medium Density)
footprint 751-05_L (SOIC, 8-Leads, Body 4.9x3.9mm, Pitch 1.27mm, IPC High Density)
footprint 751-05_M (SOIC, 8-Leads, Body 4.9x3.9mm, Pitch 1.27mm, IPC Low Density)
pins on every part: 5 GND (power) hidden to GND, 8 VCC (power) hidden to VCC
part A pins: 1 Q (oe), 2 ~{Q} (oe), 7 D (in)
part B pins: 3 Q (oe), 4 ~{Q} (oe), 6 D (in)

## MC100ELT23D
designator U?
Dual Differential PECL to TTL Translator; Published: 15-Apr-2002; LatestRevisionDate: 13-Apr-2006; LatestRevisionNote: IPC-7351 Footprint Added.; DatasheetVersion: 1996; PackageVersion: 1998; PackageReference: 751-05; Publisher: Altium Limited; PackageDescription: 8-Pin Small Outline Integrated Circuit 1.27 mm Pitch; Code_JEDEC: MS-012-AA; Code_IPC: SOIC127P600-8; ComponentLink1Description: Manufacturer Link; ComponentLink1URL: http://www.onsemi.com/; ComponentLink2Description: Datasheet; ComponentLink2URL: http://www.onsemi.com/pub/Collateral/MC100ELT23-D.PDF
footprint 751-05_N (SOIC, 8-Leads, Body 4.9x3.9mm, Pitch 1.27mm, IPC Medium Density)
footprint 751-05_L (SOIC, 8-Leads, Body 4.9x3.9mm, Pitch 1.27mm, IPC High Density)
footprint 751-05_M (SOIC, 8-Leads, Body 4.9x3.9mm, Pitch 1.27mm, IPC Low Density)
pins on every part: 5 GND (power) hidden to GND, 8 VCC (power) hidden to VCC
part A pins: 1 D (in), 2 ~{D} (in), 7 Q (out)
part B pins: 3 ~{D} (in), 4 D (in), 6 Q (out)

## MC100ELT24D
designator U?
TTL to Differential ECL Translator; Published: 15-Apr-2002; LatestRevisionDate: 13-Apr-2006; LatestRevisionNote: IPC-7351 Footprint Added.; DatasheetVersion: 1996; PackageVersion: 1998; PackageReference: 751-05; Publisher: Altium Limited; PackageDescription: 8-Pin Small Outline Integrated Circuit 1.27 mm Pitch; Code_JEDEC: MS-012-AA; Code_IPC: SOIC127P600-8; ComponentLink1Description: Manufacturer Link; ComponentLink1URL: http://www.onsemi.com/; ComponentLink2Description: Datasheet; ComponentLink2URL: http://www.onsemi.com/pub/Collateral/MC10ELT24-D.PDF
footprint 751-05_N (SOIC, 8-Leads, Body 4.9x3.9mm, Pitch 1.27mm, IPC Medium Density)
footprint 751-05_L (SOIC, 8-Leads, Body 4.9x3.9mm, Pitch 1.27mm, IPC High Density)
footprint 751-05_M (SOIC, 8-Leads, Body 4.9x3.9mm, Pitch 1.27mm, IPC Low Density)
pins: 1 VEE (power), 2 D (in), 3 NC, 4 NC, 5 GND (power), 6 ~{Q} (oe), 7 Q (oe), 8 VCC (power)

## MC100ELT25D
designator U?
Differential ECL to TTL Translator; Published: 15-Apr-2002; LatestRevisionDate: 13-Apr-2006; LatestRevisionNote: IPC-7351 Footprint Added.; DatasheetVersion: Feb-2000; PackageVersion: 1998; PackageReference: 751-05; Publisher: Altium Limited; PackageDescription: 8-Pin Small Outline Integrated Circuit 1.27 mm Pitch; Code_JEDEC: MS-012-AA; Code_IPC: SOIC127P600-8; ComponentLink1Description: Manufacturer Link; ComponentLink1URL: http://www.onsemi.com/; ComponentLink2Description: Datasheet; ComponentLink2URL: http://www.onsemi.com/pub/Collateral/MC10ELT25-D.PDF
footprint 751-05_N (SOIC, 8-Leads, Body 4.9x3.9mm, Pitch 1.27mm, IPC Medium Density)
footprint 751-05_L (SOIC, 8-Leads, Body 4.9x3.9mm, Pitch 1.27mm, IPC High Density)
footprint 751-05_M (SOIC, 8-Leads, Body 4.9x3.9mm, Pitch 1.27mm, IPC Low Density)
pins: 1 VEE (power), 2 D0 (in), 3 ~{D}0 (in), 4 VBB (out), 5 GND (power), 6 NC, 7 Q0 (out), 8 VCC (power)

## MC100ELT25DR2
designator U?
Differential ECL to TTL Translator; Published: 15-Apr-2002; LatestRevisionDate: 13-Apr-2006; LatestRevisionNote: IPC-7351 Footprint Added.; DatasheetVersion: Feb-2000; PackageVersion: 1998; PackageReference: 751-05; Publisher: Altium Limited; PackageDescription: 8-Pin Small Outline Integrated Circuit 1.27 mm Pitch; Code_JEDEC: MS-012-AA; Code_IPC: SOIC127P600-8; ComponentLink1Description: Manufacturer Link; ComponentLink1URL: http://www.onsemi.com/; ComponentLink2Description: Datasheet; ComponentLink2URL: http://www.onsemi.com/pub/Collateral/MC10ELT25-D.PDF
footprint 751-05_N (SOIC, 8-Leads, Body 4.9x3.9mm, Pitch 1.27mm, IPC Medium Density)
footprint 751-05_L (SOIC, 8-Leads, Body 4.9x3.9mm, Pitch 1.27mm, IPC High Density)
footprint 751-05_M (SOIC, 8-Leads, Body 4.9x3.9mm, Pitch 1.27mm, IPC Low Density)
pins: 1 VEE (power), 2 D0 (in), 3 ~{D}0 (in), 4 VBB (out), 5 GND (power), 6 NC, 7 Q0 (out), 8 VCC (power)

## MC100ELT28D
designator U?
TTL to Differential PECL/Differential PECL to TTL Translator; Published: 15-Apr-2002; LatestRevisionDate: 13-Apr-2006; LatestRevisionNote: IPC-7351 Footprint Added.; DatasheetVersion: 1996; PackageVersion: 1998; PackageReference: 751-05; Publisher: Altium Limited; PackageDescription: 8-Pin Small Outline Integrated Circuit 1.27 mm Pitch; Code_JEDEC: MS-012-AA; Code_IPC: SOIC127P600-8; ComponentLink1Description: Manufacturer Link; ComponentLink1URL: http://www.onsemi.com/; ComponentLink2Description: Datasheet; ComponentLink2URL: http://www.onsemi.com/pub/Collateral/MC10ELT28-D.PDF
footprint 751-05_N (SOIC, 8-Leads, Body 4.9x3.9mm, Pitch 1.27mm, IPC Medium Density)
footprint 751-05_L (SOIC, 8-Leads, Body 4.9x3.9mm, Pitch 1.27mm, IPC High Density)
footprint 751-05_M (SOIC, 8-Leads, Body 4.9x3.9mm, Pitch 1.27mm, IPC Low Density)
pins: 1 DECL (in), 2 ~{DECL} (in), 3 QECL (oe), 4 ~{QECL} (oe), 5 GND (power), 6 DTTL (in), 7 QTTL (out), 8 VCC (power)

## MC100EPT21D
designator U?
Differential LVPECL to LVTTL Translator; Published: 15-Apr-2002; LatestRevisionDate: 13-Apr-2006; LatestRevisionNote: IPC-7351 Footprint Added.; DatasheetVersion: Sep-1999; PackageVersion: Sep-1999; PackageReference: 751-06; Publisher: Altium Limited; PackageDescription: 8-Pin Small Outline Integrated Circuit 1.27 mm Pitch; Code_JEDEC: MS-012-AA; Code_IPC: SOIC127P600-8; ComponentLink1Description: Manufacturer Link; ComponentLink1URL: http://www.onsemi.com/; ComponentLink2Description: Datasheet; ComponentLink2URL: http://www.onsemi.com/pub/Collateral/MC100EPT21-D.PDF
footprint 751-06_N (SOIC, 8-Leads, Body 4.9x3.9mm, Pitch 1.27mm, IPC Medium Density)
footprint 751-06_L (SOIC, 8-Leads, Body 4.9x3.9mm, Pitch 1.27mm, IPC High Density)
footprint 751-06_M (SOIC, 8-Leads, Body 4.9x3.9mm, Pitch 1.27mm, IPC Low Density)
pins: 1 NC, 2 D (in), 3 ~{D} (in), 4 VBB (out), 5 GND (power), 6 NC, 7 Q (out), 8 VCC (power)

## MC100EPT21DR2
designator U?
Differential LVPECL to LVTTL Translator; Published: 15-Apr-2002; LatestRevisionDate: 13-Apr-2006; LatestRevisionNote: IPC-7351 Footprint Added.; DatasheetVersion: Sep-1999; PackageVersion: Sep-1999; PackageReference: 751-06; Publisher: Altium Limited; PackageDescription: 8-Pin Small Outline Integrated Circuit 1.27 mm Pitch; Code_JEDEC: MS-012-AA; Code_IPC: SOIC127P600-8; ComponentLink1Description: Manufacturer Link; ComponentLink1URL: http://www.onsemi.com/; ComponentLink2Description: Datasheet; ComponentLink2URL: http://www.onsemi.com/pub/Collateral/MC100EPT21-D.PDF
footprint 751-06_N (SOIC, 8-Leads, Body 4.9x3.9mm, Pitch 1.27mm, IPC Medium Density)
footprint 751-06_L (SOIC, 8-Leads, Body 4.9x3.9mm, Pitch 1.27mm, IPC High Density)
footprint 751-06_M (SOIC, 8-Leads, Body 4.9x3.9mm, Pitch 1.27mm, IPC Low Density)
pins: 1 NC, 2 D (in), 3 ~{D} (in), 4 VBB (out), 5 GND (power), 6 NC, 7 Q (out), 8 VCC (power)

## MC100EPT22D
designator U?
Dual LVTTL/LVCMOS to Differential LVPECL Translator; Published: 15-Apr-2002; LatestRevisionDate: 13-Apr-2006; LatestRevisionNote: IPC-7351 Footprint Added.; DatasheetVersion: Sep-1999; PackageVersion: Sep-1999; PackageReference: 751-06; Publisher: Altium Limited; PackageDescription: 8-Pin Small Outline Integrated Circuit 1.27 mm Pitch; Code_JEDEC: MS-012-AA; Code_IPC: SOIC127P600-8; ComponentLink1Description: Manufacturer Link; ComponentLink1URL: http://www.onsemi.com/; ComponentLink2Description: Datasheet; ComponentLink2URL: http://www.onsemi.com/pub/Collateral/MC100EPT22-D.PDF
footprint 751-06_N (SOIC, 8-Leads, Body 4.9x3.9mm, Pitch 1.27mm, IPC Medium Density)
footprint 751-06_L (SOIC, 8-Leads, Body 4.9x3.9mm, Pitch 1.27mm, IPC High Density)
footprint 751-06_M (SOIC, 8-Leads, Body 4.9x3.9mm, Pitch 1.27mm, IPC Low Density)
pins on every part: 5 GND (power) hidden to GND, 8 VCC (power) hidden to VCC
part A pins: 1 Q (oe), 2 ~{Q} (oe), 7 D (in)
part B pins: 3 Q (oe), 4 ~{Q} (oe), 6 D (in)

## MC100EPT22DR2
designator U?
Dual LVTTL/LVCMOS to Differential LVPECL Translator; Published: 15-Apr-2002; LatestRevisionDate: 13-Apr-2006; LatestRevisionNote: IPC-7351 Footprint Added.; DatasheetVersion: Sep-1999; PackageVersion: Sep-1999; PackageReference: 751-06; Publisher: Altium Limited; PackageDescription: 8-Pin Small Outline Integrated Circuit 1.27 mm Pitch; Code_JEDEC: MS-012-AA; Code_IPC: SOIC127P600-8; ComponentLink1Description: Manufacturer Link; ComponentLink1URL: http://www.onsemi.com/; ComponentLink2Description: Datasheet; ComponentLink2URL: http://www.onsemi.com/pub/Collateral/MC100EPT22-D.PDF
footprint 751-06_N (SOIC, 8-Leads, Body 4.9x3.9mm, Pitch 1.27mm, IPC Medium Density)
footprint 751-06_L (SOIC, 8-Leads, Body 4.9x3.9mm, Pitch 1.27mm, IPC High Density)
footprint 751-06_M (SOIC, 8-Leads, Body 4.9x3.9mm, Pitch 1.27mm, IPC Low Density)
pins on every part: 5 GND (power) hidden to GND, 8 VCC (power) hidden to VCC
part A pins: 1 Q (oe), 2 ~{Q} (oe), 7 D (in)
part B pins: 3 Q (oe), 4 ~{Q} (oe), 6 D (in)

## MC100EPT23D
designator U?
Dual Differential LVPECL to LVTTL Translator; Published: 15-Apr-2002; LatestRevisionDate: 13-Apr-2006; LatestRevisionNote: IPC-7351 Footprint Added.; DatasheetVersion: Sep-1999; PackageVersion: Sep-1999; PackageReference: 751-06; Publisher: Altium Limited; PackageDescription: 8-Pin Small Outline Integrated Circuit 1.27 mm Pitch; Code_JEDEC: MS-012-AA; Code_IPC: SOIC127P600-8; ComponentLink1Description: Manufacturer Link; ComponentLink1URL: http://www.onsemi.com/; ComponentLink2Description: Datasheet; ComponentLink2URL: http://www.onsemi.com/pub/Collateral/MC100EPT23-D.PDF
footprint 751-06_N (SOIC, 8-Leads, Body 4.9x3.9mm, Pitch 1.27mm, IPC Medium Density)
footprint 751-06_L (SOIC, 8-Leads, Body 4.9x3.9mm, Pitch 1.27mm, IPC High Density)
footprint 751-06_M (SOIC, 8-Leads, Body 4.9x3.9mm, Pitch 1.27mm, IPC Low Density)
pins on every part: 5 GND (power) hidden to GND, 8 VCC (power) hidden to VCC
part A pins: 1 D (in), 2 ~{D} (in), 7 Q (out)
part B pins: 3 ~{D} (in), 4 D (in), 6 Q (out)